# EAGLE library part MAX13054 (library lib_stankus)
Maxim MAX13054 CAN PHY Farnell #1600117
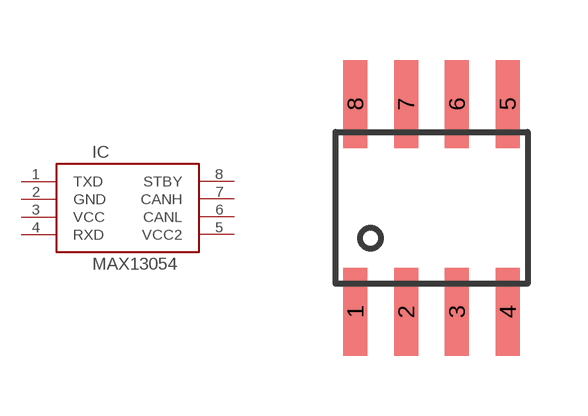
[diagram p42: symbol with the pads of SOIC8; footprint SOIC8]

Designator prefix IC

## MAX13054-SOIC8  [SOIC8]
1  TXD  pas
2  GND  pas
3  VCC  pas
4  RXD  pas
5  VCC2  pas
6  CANL  pas
7  CANH  pas
8  STBY  pas

## Footprint SOIC8 (pad centres in mm)
SOIC8
smd 0.6 x 2.2: 1 -1.905,-2.6; 2 -0.635,-2.6; 3 0.635,-2.6; 4 1.905,-2.6; 5 1.905,2.6; 6 0.635,2.6; 7 -0.635,2.6; 8 -1.905,2.6